# Altium footprint library optic.PcbLib: 13 footprints
Each footprint in its own frame and in the unit in brackets; x right, y up, seen from the top. Pads: shape width x height; smd on the part's side, far side on the other; paste and mask are expansions set on the pad; w line width, h text height; cw(c..) or ccw(c..) is an arc to the next point about the centre after c.
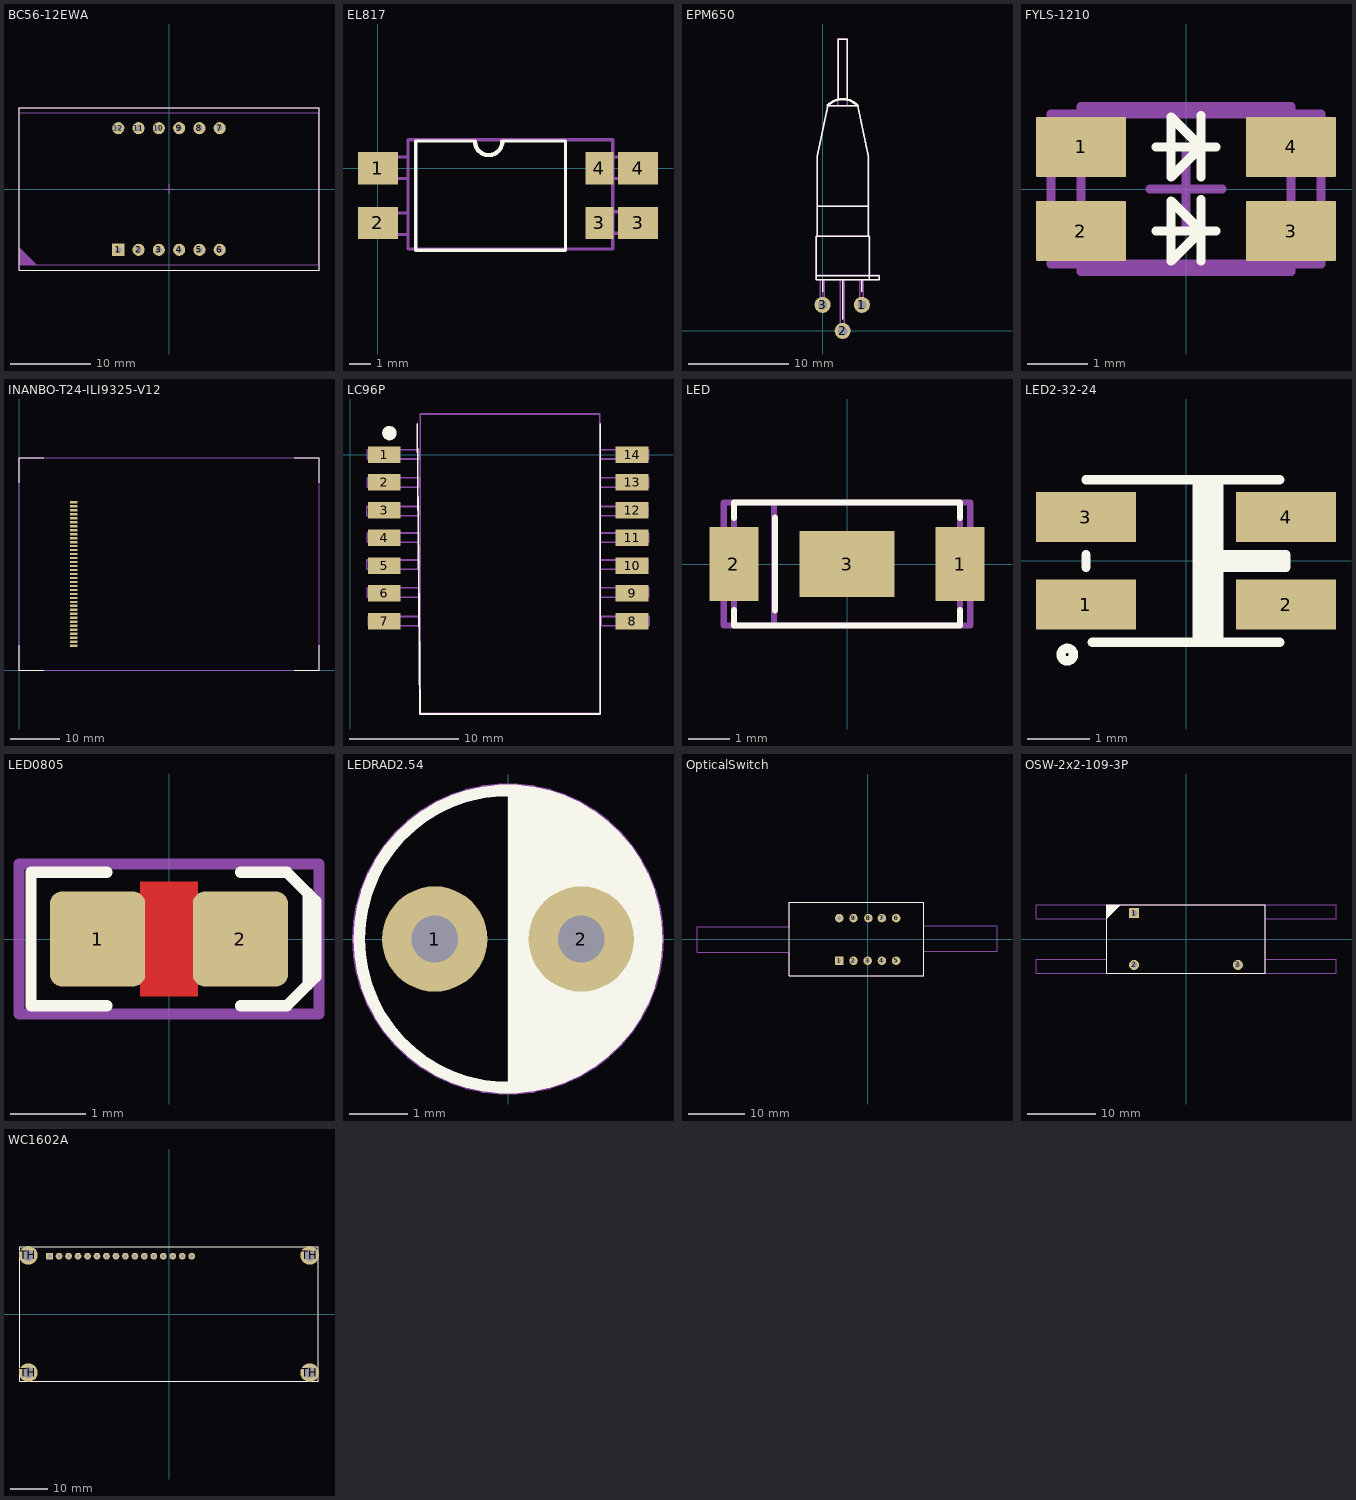
[diagram p0: the footprints below, top view; thin cyan lines are the x and y axes]

## BC56-12EWA [mil]
height 500
pads (12):
  rect 60x60 hole 30: 1(-250,-300)
  round 60 hole 30: 2(-150,-300) 3(-50,-300) 4(50,-300) 5(150,-300) 6(250,-300) 7(250,300) 8(150,300) 9(50,300) 10(-50,300) 11(-150,300) 12(-250,300)
Top Overlay:
  lines w5.91: -740,-400 -740,400 740,400 740,-400 -740,-400
Mechanical 15:
  lines w5.91: -23.62,0 0,0 ; 0,-23.62 0,0 ; 0,23.62 0,0 ; 23.62,0 0,0 ; -740,-400 -740,400 740,400 740,-400 -740,-400
Mechanical 29:
  region: -739.17,-373.03 -739.17,-286.42 -652.56,-373.03
  lines w5.91: -739.17,-373.03 -739.17,375.98 739.17,375.98 739.17,-373.03 -739.17,-373.03
3D body "BX56-12v1.STEP": height 314.96, standoff -161.42, extent -740.16,-370 740.16,378.03

## EL817 [mm]
pads (6):
  rect 1.85x1.5 smd: 1(0,0) 2(0,-2.54) 3(12.1,-2.54) 4(12.1,0)
  rect 1.3x1.5 smd: 3(10.3,-2.54) 4(10.3,0)
Top Overlay:
  lines w0.15: 4.515,1.27 1.76,1.27 1.76,-3.81 8.725,-3.81 8.725,1.27 5.785,1.27
  lines w0.2: 4.515,1.25 ccw(c5.15,1.25) 5.785,1.25
Mechanical 29:
  lines w0.15: -0.45,-3.075 -0.45,-2.075 1.4,-2.075 1.4,-3.075 -0.45,-3.075 ; -0.45,-0.475 -0.45,0.525 1.4,0.525 1.4,-0.475 -0.45,-0.475 ; 1.4,-3.75 10.925,-3.75 10.925,1.325 1.4,1.325 1.4,-3.75 ; 10.925,-3.025 10.925,-2.025 12.775,-2.025 12.775,-3.025 10.925,-3.025 ; 10.925,-0.475 12.775,-0.475 12.775,0.525 10.925,0.525 10.925,-0.475
3D body "EL817.STEP": height 4.68, standoff 0, extent 0.245,-3.59 10.405,0.99

## EPM650 [mm]
pads (3):
  round 1.6 hole 0.9: 1(3.9,2.6) 2(2,0) 3(0,2.6)
Top Overlay:
  lines w0.15: -0.65,5.47 5.65,5.47 5.65,5.11 ; -0.55,9.4 -0.55,17.4 0.5,22.4 3.5,22.4 4.55,17.4 4.55,9.4 ; -0.55,12.4 4.55,12.4 ; 0,3.875 0,5.1 ; 1.55,23 1.55,29 2.45,29 2.45,23 ; 2,1.15 2,5.1 ; 3.9,3.875 3.9,5.1 ; 4.64,9.4 -0.65,9.4 -0.65,5.1 5.65,5.1 ; 4.65,5.1 4.65,9.4
  lines w0.254: 0.503,22.397 cw(c1.993,21.025) 3.48,22.4
Mechanical 29:
  lines w0.15: -0.55,12.375 4.575,12.375 4.575,12.35 ; -0.5,9.4 -0.55,9.4 -0.55,17.35 0.55,22.375 3.475,22.4 4.575,17.325 4.575,9.4 4.5,9.4 ; -0.675,5.525 5.65,5.525 5.65,5.075 -0.675,5.075 -0.675,5.525 ; -0.675,5.525 4.675,5.525 4.675,9.4 -0.675,9.4 -0.675,5.525 ; -0.225,2.375 -0.225,5.075 0.15,5.075 0.15,2.375 -0.225,2.375 ; 1.525,22.383 1.525,29.025 2.45,29.025 2.45,22.383 1.525,22.383 ; 1.775,-0.225 2.15,-0.225 2.15,5.075 1.775,5.075 1.775,-0.225 ; 3.675,2.375 4.05,2.375 4.05,5.075 3.675,5.075 3.675,2.375
3D body "EPM650.STEP": height 6.78, standoff -3, extent -0.794,-0.25 5.494,27.475

## FYLS-1210 [mm] "Generic 1210 Bi-Colour SMT LED"
pads (4):
  rrect5% 1.5x1 smd: 1(-1.75,0.7) 2(-1.75,-0.7) 3(1.75,-0.7) 4(1.75,0.7)
Top Overlay:
  lines w0.15: -0.5,-0.7 0.5,-0.7 ; -0.5,0.7 0.5,0.7 ; 0.25,-1.2 0.25,-0.175 ; 0.25,0.2 0.25,1.225 ; -0.25,-1.2 -0.25,-0.2 0.25,-0.7 -0.25,-1.2 ; -0.25,0.2 0.25,0.7 -0.25,1.2 -0.25,0.2
Mechanical 15:
  lines w0.15: -0.6,0 0,0 ; 0,-0.6 0,0 ; 0,0.6 0,0 ; 0.6,0 0,0 ; -2.25,-1.25 2.25,-1.25 2.25,1.25 -2.25,1.25 -2.25,-1.25
Mechanical 29:
  circle w0.3: c-1.35,0.975 r0.135
  lines w0.15: -1.75,-1.375 1.75,-1.375 1.75,1.375 -1.75,1.375 -1.75,-1.375

## INANBO-T24-ILI9325-V12 [mm]
pads (37):
  rect 1.5x0.45 smd: 1(11,33.75) 2(11,32.95) 3(11,32.15) 4(11,31.35) 5(11,30.55) 6(11,29.75) 7(11,28.95) 8(11,28.15) 9(11,27.35) 10(11,26.55) 11(11,25.75) 12(11,24.95) 13(11,24.15) 14(11,23.35) 15(11,22.55) 16(11,21.75) 17(11,20.95) 18(11,20.15) 19(11,19.35) 20(11,18.55) 21(11,17.75) 22(11,16.95) 23(11,16.15) 24(11,15.35) 25(11,14.55) 26(11,13.75) 27(11,12.95) 28(11,12.15) 29(11,11.35) 30(11,10.55) 31(11,9.75) 32(11,8.95) 33(11,8.15) 34(11,7.35) 35(11,6.55) 36(11,5.75) 37(11,4.95)
Top Overlay:
  lines w0.15: 0,5 0,0 5,0 ; 0,37.72 0,42.72 5,42.72 ; 55.26,0 60.26,0 60.26,5 ; 55.26,42.72 60.26,42.72 60.26,37.72
Mechanical 29:
  lines w0.15: 0,0 0,42.72 60.26,42.72 60.26,0 0,0
3D body: height 8, standoff 6, extent -0.075,-0.075 60.335,42.795

## LC96P [mm]
height 5
pads (14):
  rect 3x1.5 smd: 1(3.1,0) 2(3.1,-2.54) 3(3.1,-5.08) 4(3.1,-7.62) 5(3.1,-10.16) 6(3.1,-12.7) 7(3.1,-15.24) 8(25.8,-15.24) 9(25.8,-12.7) 10(25.8,-10.16) 11(25.8,-7.62) 12(25.8,-5.08) 13(25.8,-2.54) 14(25.8,0)
Top Overlay:
  circle w0.254: c3.575,1.975 r0.535
  region: 2.993,2.02 2.993,1.913 3.074,1.717 3.225,1.566 3.421,1.485 3.528,1.485 3.634,1.485 3.831,1.566 3.981,1.717 4.063,1.913 4.063,2.02 4.063,2.126 3.981,2.323 3.831,2.473 3.634,2.555 3.528,2.555 3.421,2.555 3.225,2.473 3.074,2.323 2.993,2.126
  lines w0.15: 6.125,2.825 6.375,-23.75 22.875,-23.75 22.875,2.825
Mechanical 29:
  lines w0.15: 1.5,-10.5 6.25,-10.5 6.25,-9.65 1.5,-9.65 1.5,-10.5 ; 1.5,-5.6 6.25,-5.6 6.25,-4.75 1.5,-4.75 1.5,-5.6 ; 1.55,-13.05 6.3,-13.05 6.3,-12.2 1.55,-12.2 1.55,-13.05 ; 1.55,-8.025 6.3,-8.025 6.3,-7.175 1.55,-7.175 1.55,-8.025 ; 1.55,-2.975 6.3,-2.975 6.3,-2.125 1.55,-2.125 1.55,-2.975 ; 1.55,-0.4 1.55,0.45 6.3,0.45 6.3,-0.4 1.55,-0.4 ; 1.625,-15.675 6.375,-15.675 6.375,-14.825 1.625,-14.825 1.625,-15.675 ; 6.4,-23.675 22.85,-23.675 22.85,3.725 6.4,3.725 6.4,-23.675 ; 22.825,-10.5 22.825,-9.65 27.25,-9.65 27.25,-10.5 22.825,-10.5 ; 22.825,-5.6 22.825,-4.75 27.25,-4.75 27.25,-5.6 22.825,-5.6 ; 22.875,-13.05 22.875,-12.2 27.3,-12.2 27.3,-13.05 22.875,-13.05 ; 22.875,-8.025 22.875,-7.175 27.3,-7.175 27.3,-8.025 22.875,-8.025 ; 22.875,-2.975 22.875,-2.125 27.3,-2.125 27.3,-2.975 22.875,-2.975 ; 22.875,-0.4 27.3,-0.4 27.3,0.45 22.875,0.45 22.875,-0.4 ; 22.95,-15.675 22.95,-14.825 27.375,-14.825 27.375,-15.675 22.95,-15.675
3D body "LC96P.STEP": height 3.18, standoff -4.48, extent 2.875,-22.65 26.075,27.85

## LED [mm]
pads (3):
  rect 1.2x1.8 smd: 1(2.75,0) 2(-2.75,0)
  rect 2.3x1.6 smd: 3(0,0)
Top Overlay:
  lines w0.15: -2.75,-1.125 -2.75,-1.5 2.75,-1.5 2.75,-1.125 ; -2.75,1.125 -2.75,1.5 2.75,1.5 2.75,1.125 ; -1.75,-1.125 -1.75,-0.562 -1.75,0.562 -1.75,1.125
Mechanical 15:
  lines w0.15: -0.6,0 0,0 ; 0,-0.6 0,0 ; 0,0.6 0,0 ; 0.6,0 0,0 ; -3,-1.5 3,-1.5 3,1.5 -3,1.5 -3,-1.5
Mechanical 29:
  lines w0.15: -1.778,-1.5 -1.778,1.5 ; -2.75,-1.5 2.75,-1.5 2.75,1.5 -2.75,1.5 -2.75,-1.5
3D body "LEDSMD.STEP": height 1.1, standoff 0, extent -2.85,-1.5 2.85,1.5

## LED2-32-24 [mm]
height 2.5
pads (4):
  rect 1.6x0.8 smd: 1(-1.6,-0.7) 2(1.6,-0.7) 3(-1.6,0.7) 4(1.6,0.7)
Top Overlay:
  circle w0.15: c-1.9,-1.5 r0.1
  rectangle: 0.1,-1.3 0.6,1.3
  rectangle: 0.35,-0.175 1.6,0.175
  lines w0.15: -1.6,-0.1 -1.6,0.1 ; -1.6,1.3 1.5,1.3 ; -1.5,-1.3 1.5,-1.3 ; 1.6,-0.1 1.6,0.1
3D body: height 0.55, standoff 0.5, extent -1.4,-0.3 -1.1,0.3
3D body: height 0.5, standoff 0, extent -1.6,-1.2 1.6,1.2
3D body: height 1.2, standoff 0, extent -0.992,-0.998 1,0.998
3D body: height 2.2, standoff 0.2, extent -0.999,-0.997 1,0.998

## LED0805 [mil]
height 31.5
pads (2):
  rrect25% 50x50 smd: 1(-37.5,0) 2(37.5,0)
Top Layer:
  pour cut-out: -15,30 15,30 15,-30 -15,-30
Top Overlay:
  lines w5.91: -32.5,-35 -72.5,-35 -72.5,35 -32.5,35 ; 37.5,-35 62,-35 77,-20 77,20 62,35 37.5,35 ; 73,-24 73,24
Mechanical 15:
  lines w5.91: -23.62,0 0,0 ; 0,-23.62 0,0 ; 0,23.62 0,0 ; 23.62,0 0,0 ; -78.74,-39.37 78.74,-39.37 78.74,39.37 -78.74,39.37 -78.74,-39.37
3D body: height 31.5, standoff 11.81, extent -26.49,-24.61 28.65,24.6
3D body: height 11.81, standoff 3.94, extent -39.37,-24.61 39.37,24.61
3D body: height 3.94, standoff 0, extent -39.37,-24.61 39.37,24.61
3D body: height 15.75, standoff 3.94, extent -11.81,-15.75 11.81,15.75

## LEDRAD2.54 [mm]
height 10
pads (2):
  round 1.8 hole 0.8: 1(-1.252,0) 2(1.252,0)
Top Overlay:
  circle w0.2: c0,0 r2.54
  region: 0,-2.5 0.246,-2.5 0.729,-2.404 1.184,-2.215 1.594,-1.942 1.942,-1.594 2.215,-1.184 2.404,-0.729 2.5,-0.246 2.5,0.246 2.404,0.729 2.215,1.184 1.942,1.594 1.594,1.942 1.184,2.215 0.729,2.404 0.246,2.5 0,2.5
Mechanical 29:
  circle w0.2: c0,0 r2.561
  lines w0.15: 1.6,-2 1.6,2
3D body "LED5MM.STEP": height 13.6, standoff -2, extent -2.95,-2.942 2.95,2.942

## OpticalSwitch [mil]
height 314.96
pads (10):
  rect 60x60 hole 27.56: 1(-200,-150)
  round 60 hole 27.56: 2(-100,-150) 3(0,-150) 4(100,-150) 5(200,-150) 6(200,150) 7(100,150) 8(5,150) 9(-100,150) 10(-200,150)
Top Overlay:
  lines w5.91: -551.18,-89.57 -551.18,89.57 ; -551.18,-256.89 393.7,-256.89 393.7,262.8 -551.18,262.8 -551.18,-256.89
Mechanical 29:
  lines w5.91: 393.7,-82.68 909.45,-82.68 909.45,97.44 394.69,97.44 ; -1200.79,-89.57 -1200.79,89.57 -550.2,89.57 -550.2,262.8 393.7,262.8 393.7,-256.89 -551.18,-256.89 -551.18,-89.57 -1200.79,-89.57
3D body "OpticalSW.STEP": height 394.53, standoff -137.8, extent -1929.13,-254.92 1771.65,256.89

## OSW-2x2-109-3P [mm]
height 6
pads (3):
  rect 1.5x1.5 hole 0.8: 1(-7.62,3.81)
  round 1.5 hole 0.8: 2(-7.62,-3.81) 3(7.62,-3.81)
Top Overlay:
  region: -11.6,5 -11.6,3 -9.6,5
  lines w0.15: -11.6,-5 11.6,-5 11.6,5 -11.6,5 -11.6,-5
Mechanical 29:
  lines w0.15: -11.6,-3 -22,-3 -22,-5 -11.6,-5 ; -11.6,3 -22,3 -22,5 -11.6,5 ; 11.6,-3 22,-3 22,-5 11.6,-5 ; 11.6,3 22,3 22,5 11.6,5 ; -11.6,-5 -11.6,5 ; -11.6,-5 11.6,-5 ; -11.6,5 11.6,5 ; 11.6,-5 11.6,5

## WC1602A [mm]
pads (20):
  rect 1.8x1.8 hole 0.9: 1(-32,15.5)
  round 1.8 hole 0.9: 2(-29.46,15.5) 3(-26.92,15.5) 4(-24.38,15.5) 5(-21.84,15.5) 6(-19.3,15.5) 7(-16.76,15.5) 8(-14.22,15.5) 9(-11.68,15.5) 10(-9.14,15.5) 11(-6.6,15.5) 12(-4.06,15.5) 13(-1.52,15.5) 14(1.02,15.5) 15(3.56,15.5) 16(6.1,15.5)
  round 5 hole 3: TH(-37.7,-15.7) TH(-37.7,15.7) TH(37.7,-15.7) TH(37.7,15.7)
Top Overlay:
  lines w0.15: -40,-18 40,-18 40,18 -40,18 -40,-18
3D body: height 5, standoff 0, extent 35.075,-18.075 40.326,-13.324
3D body: height 5, standoff 0, extent 35.075,13.325 40.326,18.076
3D body: height 5, standoff 0, extent -40.325,-18.075 -35.074,-13.324
3D body: height 5, standoff 0, extent -40.325,13.325 -35.074,18.076
3D body: height 15.4, standoff 2.5, extent -40,-18 40.25,18